# EAGLE library part AXP202 (library WakamelibGOOD)
Allwinner a13 pwr ic
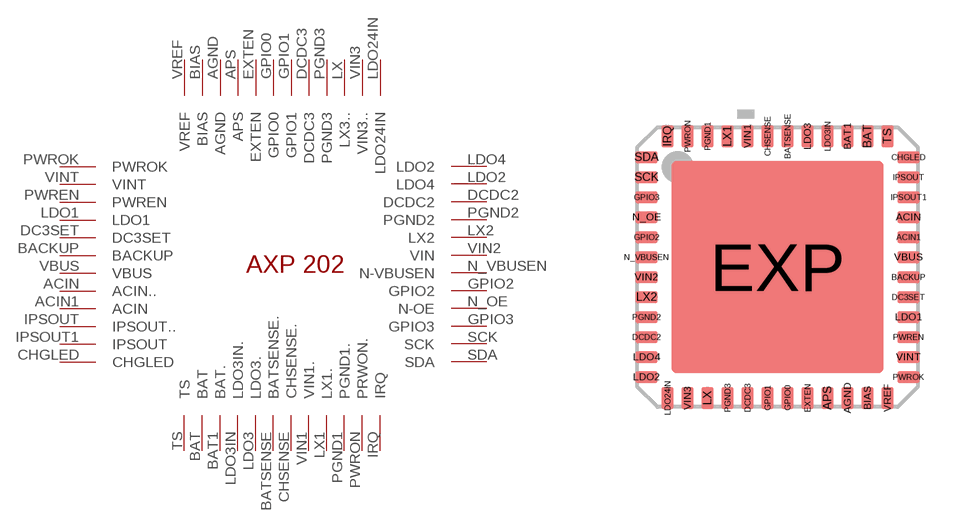
[diagram p7: symbol with the pads of QFN48; footprint QFN48]

Designator prefix -

## AXP202  [QFN48]
ACIN  ACIN..
ACIN1  ACIN
AGND  AGND
APS  APS
BACKUP  BACKUP
BAT  BAT
BAT1  BAT.
BATSENSE  BATSENSE.
BIAS  BIAS
CHGLED  CHGLED
CHSENSE  CHSENSE.
DC3SET  DC3SET
DCDC2  DCDC2
DCDC3  DCDC3
EXTEN  EXTEN
GPIO0  GPIO0
GPIO1  GPIO1
GPIO2  GPIO2
GPIO3  GPIO3
IPSOUT  IPSOUT..
IPSOUT1  IPSOUT
IRQ  IRQ
LDO1  LDO1
LDO2  LDO4
LDO3  LDO3.
LDO3IN  LDO3IN.
LDO4  LDO2
LDO24IN  LDO24IN
LX  LX3..
LX1  LX1.
LX2  LX2
N_OE  N-OE
N_VBUSEN  N-VBUSEN
PGND1  PGND1.
PGND2  PGND2
PGND3  PGND3
PWREN  PWREN
PWROK  PWROK
PWRON  PRWON.
SCK  SCK
SDA  SDA
TS  TS
VBUS  VBUS
VIN1  VIN1.
VIN2  VIN
VIN3  VIN3..
VINT  VINT
VREF  VREF

## Footprint QFN48 (pad centres in mm)
48-pin QFN 7 x 7 mm LF48 48 Quad Flat Package No Leads Source: http://v4.cypress.com/cfuploads/img/products/cywusb6934.pdf
smd 0.55 x 0.3: ACIN 0.735,-1.29; ACIN1 0.735,-1.79; BACKUP 0.735,-2.79; CHGLED 0.735,0.21; DC3SET 0.735,-3.29; DCDC2 -5.815,-4.29; GPIO2 -5.815,-1.79; GPIO3 -5.815,-0.79; IPSOUT 0.735,-0.29; IPSOUT1 0.735,-0.79; LDO1 0.735,-3.79; LDO2 -5.815,-5.29; LDO4 -5.815,-4.79; LX2 -5.815,-3.29; N_OE -5.815,-1.29; N_VBUSEN -5.815,-2.29; PGND2 -5.815,-3.79; PWREN 0.735,-4.29; PWROK 0.735,-5.29; SCK -5.815,-0.29; SDA -5.815,0.21; VBUS 0.735,-2.29; VIN2 -5.815,-2.79; VINT 0.735,-4.79
smd 0.3 x 0.55: AGND -0.79,-5.815; APS -1.29,-5.815; BAT -0.29,0.735; BAT1 -0.79,0.735; BATSENSE -2.29,0.735; BIAS -0.29,-5.815; CHSENSE -2.79,0.735; DCDC3 -3.29,-5.815; EXTEN -1.79,-5.815; GPIO0 -2.29,-5.815; GPIO1 -2.79,-5.815; IRQ -5.29,0.735; LDO3 -1.79,0.735; LDO3IN -1.29,0.735; LDO24IN -5.29,-5.815; LX -4.29,-5.815; LX1 -3.79,0.735; PGND1 -4.29,0.735; PGND3 -3.79,-5.815; PWRON -4.79,0.735; TS 0.21,0.735; VIN1 -3.29,0.735; VIN3 -4.79,-5.815; VREF 0.21,-5.815
smd 5.309 x 5.309: EXP -2.54,-2.54